# Altium footprint library TO-92.PcbLib: 1 footprints
Each footprint in its own frame and in the unit in brackets; x right, y up, seen from the top. Pads: shape width x height; smd on the part's side, far side on the other; paste and mask are expansions set on the pad; w line width, h text height; cw(c..) or ccw(c..) is an arc to the next point about the centre after c.
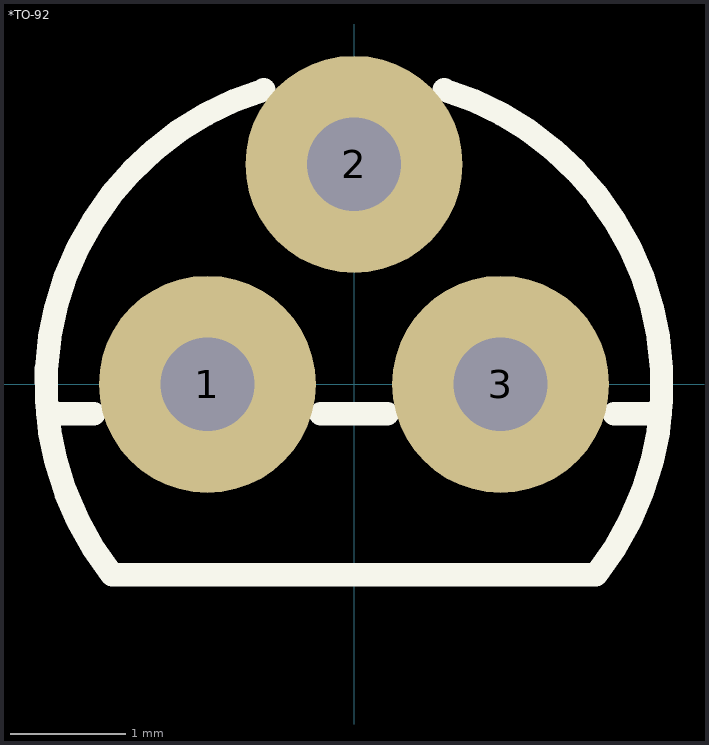
[diagram p0: the footprint, top view; thin cyan lines are the x and y axes]

## *TO-92 [mil]
pads (3):
  round 74 hole 32: 1(-50,0) 2(0,75) 3(50,0)
Top Overlay:
  lines w8: -104.52,-10 -88.73,-10 ; -82.74,-64.65 cw(c0,0) -30.7,100.41 ; -82.46,-65 82.46,-65 ; -11.27,-10 11.27,-10 ; 30.7,100.41 cw(c0,0) 82.74,-64.64 ; 88.73,-10 104.52,-10